# EAGLE library part HE722A0500 (library shepherd)
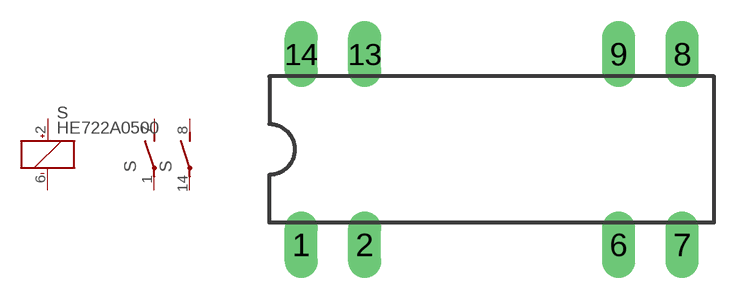
[diagram p0: symbol with the pads of DIL14/8; footprint DIL14/8]

Designator prefix S; gates G$1=K+- G$2=S G$3=S

## HE722A0500  [DIL14/8]
1  G$2:P  pas
2  G$1:+  pas
6  G$1:-  pas
7  G$2:S  pas
8  G$3:S  pas
14  G$3:P  pas

## Footprint DIL14/8 (pad centres in mm)
Dual In Line Package
drill 0.813 long: 1 -7.62,-3.81; 2 -5.08,-3.81; 6 5.08,-3.81; 7 7.62,-3.81; 8 7.62,3.81; 9 5.08,3.81; 13 -5.08,3.81; 14 -7.62,3.81